# Altium footprint library Footprint-Lib-JVillodres.PcbLib: 52 footprints (part 3 of 4)
Each footprint in its own frame and in the unit in brackets; x right, y up, seen from the top. Pads: shape width x height; smd on the part's side, far side on the other; paste and mask are expansions set on the pad; w line width, h text height; cw(c..) or ccw(c..) is an arc to the next point about the centre after c.
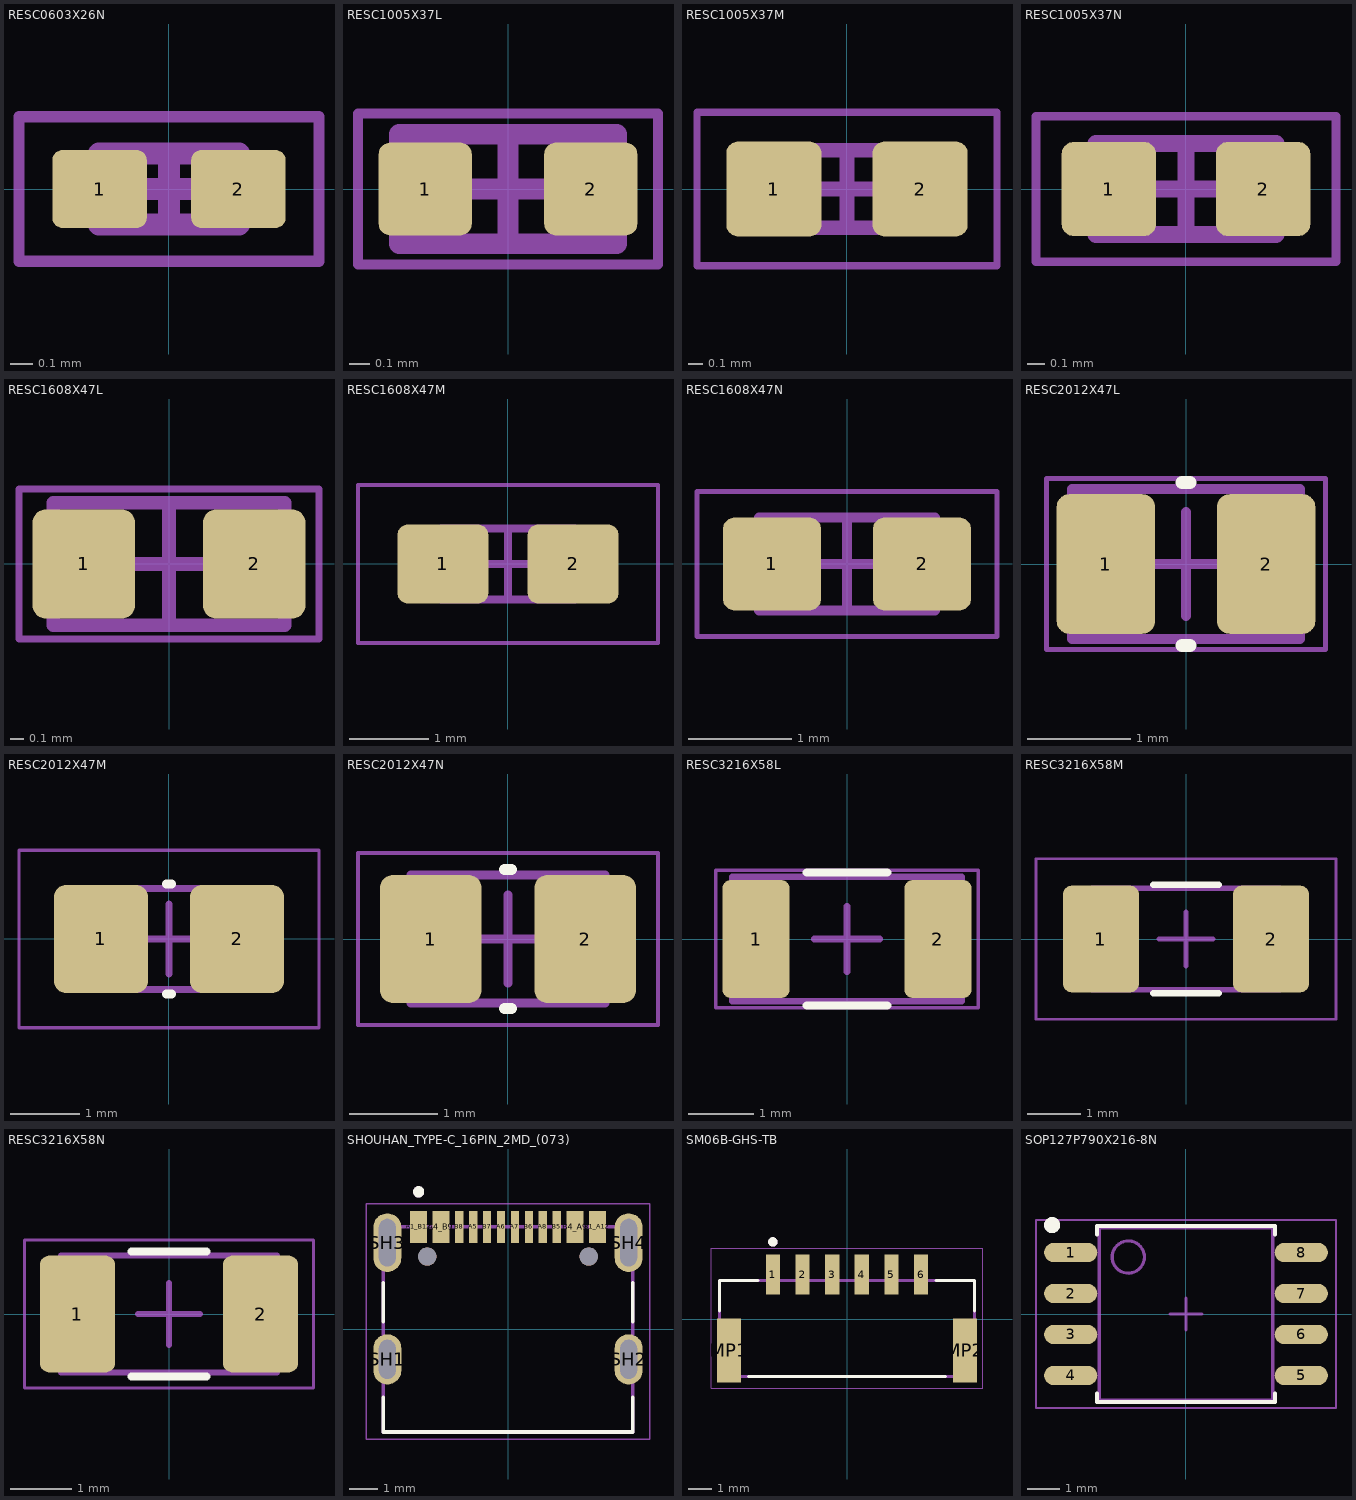
[diagram p2: the footprints below, top view; thin cyan lines are the x and y axes]

## RESC0603X26N [mm] "Chip Resistor, 2-Leads, Body 0,60x0,30mm, IPC Medium Density"
height 0.26
pads (2):
  rrect25% 0.425x0.35 smd: 1(-0.312,0) 2(0.313,0)
Top Assembly:
  lines w0.1: -0.315,-0.16 -0.315,0.16 0.315,0.16 0.315,-0.16 -0.315,-0.16
Top Designator:
  text ".Designator" at 0,0.188 h1
Top Courtyard:
  lines w0.05: -0.675,-0.325 -0.675,0.325 0.675,0.325 0.675,-0.325 -0.675,-0.325
Top Component Center:
  lines w0.1: -0.16,0 0.16,0 ; 0,-0.16 0,0.16
3D body "RESC0603X26N.step": height 0.26, standoff 0, extent -0.3,-0.15 0.3,0.15

## RESC1005X37L [mm] "Chip Resistor, 2-Leads, Body 1,00x0,50mm, IPC High Density"
height 0.37
pads (2):
  rrect25% 0.45x0.45 smd: 1(-0.4,0) 2(0.4,0)
Top Assembly:
  lines w0.1: -0.525,-0.265 -0.525,0.265 0.525,0.265 0.525,-0.265 -0.525,-0.265
Top Designator:
  text ".Designator" at 0,0.188 h1
Top Courtyard:
  lines w0.05: -0.725,-0.365 -0.725,0.365 0.725,0.365 0.725,-0.365 -0.725,-0.365
Top Component Center:
  lines w0.1: -0.265,0 0.265,0 ; 0,-0.265 0,0.265
3D body "RESC1005X37L.step": height 0.37, standoff 0, extent -0.5,-0.25 0.5,0.25

## RESC1005X37M [mm] "Chip Resistor, 2-Leads, Body 1,00x0,50mm, IPC Low Density"
height 0.37
pads (2):
  rrect25% 0.65x0.65 smd: 1(-0.5,0) 2(0.5,0)
Top Assembly:
  lines w0.1: -0.525,-0.265 -0.525,0.265 0.525,0.265 0.525,-0.265 -0.525,-0.265
Top Designator:
  text ".Designator" at 0,0.188 h1
Top Courtyard:
  lines w0.05: -1.025,-0.525 -1.025,0.525 1.025,0.525 1.025,-0.525 -1.025,-0.525
Top Component Center:
  lines w0.1: -0.265,0 0.265,0 ; 0,-0.265 0,0.265
3D body "RESC1005X37M.step": height 0.37, standoff 0, extent -0.5,-0.25 0.5,0.25

## RESC1005X37N [mm] "Chip Resistor, 2-Leads, Body 1,00x0,50mm, IPC Medium Density"
height 0.37
pads (2):
  rrect25% 0.55x0.55 smd: 1(-0.45,0) 2(0.45,0)
Top Assembly:
  lines w0.1: -0.525,-0.265 0.525,-0.265 0.525,0.265 -0.525,0.265 -0.525,-0.265
Top Designator:
  text ".Designator" at 0,0.188 h1
Top Courtyard:
  lines w0.05: -0.875,-0.425 0.875,-0.425 0.875,0.425 -0.875,0.425 -0.875,-0.425
Top Component Center:
  lines w0.1: -0.265,0 0.265,0 ; 0,-0.265 0,0.265
3D body "RESC1005X37N.step": height 0.37, standoff 0, extent -0.5,-0.25 0.5,0.25

## RESC1608X47L [mm] "Chip Resistor, 2-Leads, Body 1,60x0,80mm, IPC High Density"
height 0.47
pads (2):
  rrect25% 0.75x0.8 smd: 1(-0.625,0) 2(0.625,0)
Top Assembly:
  lines w0.1: -0.85,-0.45 -0.85,0.45 0.85,0.45 0.85,-0.45 -0.85,-0.45
Top Designator:
  text ".Designator" at 0,0.188 h1
Top Courtyard:
  lines w0.05: -1.1,-0.55 -1.1,0.55 1.1,0.55 1.1,-0.55 -1.1,-0.55
Top Component Center:
  lines w0.1: -0.45,0 0.45,0 ; 0,-0.45 0,0.45
3D body "RESC1608X47L.step": height 0.47, standoff 0, extent -0.8,-0.4 0.8,0.4

## RESC1608X47M [mm] "Chip Resistor, 2-Leads, Body 1,60x0,80mm, IPC Low Density"
height 0.47
pads (2):
  rrect25% 1.15x1 smd: 1(-0.825,0) 2(0.825,0)
Top Assembly:
  lines w0.1: -0.85,-0.45 -0.85,0.45 0.85,0.45 0.85,-0.45 -0.85,-0.45
Top Designator:
  text ".Designator" at 0,0.188 h1
Top Courtyard:
  lines w0.05: -1.9,-1 -1.9,1 1.9,1 1.9,-1 -1.9,-1
Top Component Center:
  lines w0.1: -0.45,0 0.45,0 ; 0,-0.45 0,0.45
3D body "RESC1608X47M.step": height 0.47, standoff 0, extent -0.8,-0.4 0.8,0.4

## RESC1608X47N [mm] "Chip Resistor, 2-Leads, Body 1,60x0,80mm, IPC Medium Density"
height 0.47
pads (2):
  rrect25% 0.95x0.9 smd: 1(-0.725,0) 2(0.725,0)
Top Assembly:
  lines w0.1: -0.85,-0.45 -0.85,0.45 0.85,0.45 0.85,-0.45 -0.85,-0.45
Top Designator:
  text ".Designator" at 0,0.188 h1
Top Courtyard:
  lines w0.05: -1.45,-0.7 -1.45,0.7 1.45,0.7 1.45,-0.7 -1.45,-0.7
Top Component Center:
  lines w0.1: -0.45,0 0.45,0 ; 0,-0.45 0,0.45
3D body "RESC1608X47N.step": height 0.47, standoff 0, extent -0.8,-0.4 0.8,0.4

## RESC2012X47L [mm] "Chip Resistor, 2-Leads, Body 2,00x1,25mm, IPC High Density"
height 0.47
pads (2):
  rrect25% 0.95x1.35 smd: 1(-0.775,0) 2(0.775,0)
Top Overlay:
  lines w0.127: -0.036,-0.788 0.036,-0.788 ; -0.036,0.788 0.036,0.788
Top Assembly:
  lines w0.1: -1.1,-0.725 -1.1,0.725 1.1,0.725 1.1,-0.725 -1.1,-0.725
Top Designator:
  text ".Designator" at 0,0.188 h1
Top Courtyard:
  lines w0.05: -1.35,-0.825 -1.35,0.825 1.35,0.825 1.35,-0.825 -1.35,-0.825
Top Component Center:
  lines w0.1: -0.5,0 0.5,0 ; 0,-0.5 0,0.5
3D body "RESC2012X47L.step": height 0.47, standoff 0, extent -1,-0.625 1,0.625

## RESC2012X47M [mm] "Chip Resistor, 2-Leads, Body 2,00x1,25mm, IPC Low Density"
height 0.47
pads (2):
  rrect25% 1.35x1.55 smd: 1(-0.975,0) 2(0.975,0)
Top Overlay:
  lines w0.127: -0.036,-0.788 0.036,-0.788 ; -0.036,0.788 0.036,0.788
Top Assembly:
  lines w0.1: -1.1,-0.725 -1.1,0.725 1.1,0.725 1.1,-0.725 -1.1,-0.725
Top Designator:
  text ".Designator" at 0,0.188 h1
Top Courtyard:
  lines w0.05: -2.15,-1.275 -2.15,1.275 2.15,1.275 2.15,-1.275 -2.15,-1.275
Top Component Center:
  lines w0.1: -0.5,0 0.5,0 ; 0,-0.5 0,0.5
3D body "RESC2012X47M.step": height 0.47, standoff 0, extent -1,-0.625 1,0.625

## RESC2012X47N [mm] "Chip Resistor, 2-Leads, Body 2,00x1,25mm, IPC Medium Density"
height 0.47
pads (2):
  rrect25% 1.15x1.45 smd: 1(-0.875,0) 2(0.875,0)
Top Overlay:
  lines w0.127: -0.036,-0.788 0.036,-0.788 ; -0.036,0.788 0.036,0.788
Top Assembly:
  lines w0.1: -1.1,-0.725 -1.1,0.725 1.1,0.725 1.1,-0.725 -1.1,-0.725
Top Designator:
  text ".Designator" at 0,0.188 h1
Top Courtyard:
  lines w0.05: -1.7,-0.975 -1.7,0.975 1.7,0.975 1.7,-0.975 -1.7,-0.975
Top Component Center:
  lines w0.1: -0.5,0 0.5,0 ; 0,-0.5 0,0.5
3D body "RESC2012X47N.step": height 0.47, standoff 0, extent -1,-0.625 1,0.625

## RESC3216X58L [mm] "Chip Resistor, 2-Leads, Body 3,20x1,60mm, IPC High Density"
height 0.58
pads (2):
  rrect25% 1.025x1.8 smd: 1(-1.388,0) 2(1.388,0)
Top Overlay:
  lines w0.127: -0.611,-1.013 0.611,-1.013 ; -0.611,1.014 0.611,1.014
Top Assembly:
  lines w0.1: -1.75,-0.95 1.75,-0.95 1.75,0.95 -1.75,0.95 -1.75,-0.95
Top Designator:
  text ".Designator" at 0,0.188 h1
Top Courtyard:
  lines w0.05: -2,-1.05 2,-1.05 2,1.05 -2,1.05 -2,-1.05
Top Component Center:
  lines w0.1: -0.5,0 0.5,0 ; 0,-0.5 0,0.5
3D body "RESC3216X58L.step": height 0.58, standoff 0, extent -1.6,-0.8 1.6,0.8

## RESC3216X58M [mm] "Chip Resistor, 2-Leads, Body 3,20x1,60mm, IPC Low Density"
height 0.58
pads (2):
  rrect25% 1.425x2 smd: 1(-1.587,0) 2(1.587,0)
Top Overlay:
  lines w0.127: -0.611,-1.014 0.611,-1.014 ; -0.611,1.014 0.611,1.014
Top Assembly:
  lines w0.1: -1.75,-0.95 1.75,-0.95 1.75,0.95 -1.75,0.95 -1.75,-0.95
Top Designator:
  text ".Designator" at 0,0.188 h1
Top Courtyard:
  lines w0.05: -2.8,-1.5 2.8,-1.5 2.8,1.5 -2.8,1.5 -2.8,-1.5
Top Component Center:
  lines w0.1: -0.5,0 0.5,0 ; 0,-0.5 0,0.5
3D body "RESC3216X58M.step": height 0.58, standoff 0, extent -1.6,-0.8 1.6,0.8

## RESC3216X58N [mm] "Chip Resistor, 2-Leads, Body 3,20x1,60mm, IPC Medium Density"
height 0.58
pads (2):
  rrect25% 1.225x1.9 smd: 1(-1.488,0) 2(1.488,0)
Top Overlay:
  lines w0.127: -0.611,-1.013 0.611,-1.013 ; -0.611,1.014 0.611,1.014
Top Assembly:
  lines w0.1: -1.75,-0.95 1.75,-0.95 1.75,0.95 -1.75,0.95 -1.75,-0.95
Top Designator:
  text ".Designator" at 0,0.188 h1
Top Courtyard:
  lines w0.05: -2.35,-1.2 2.35,-1.2 2.35,1.2 -2.35,1.2 -2.35,-1.2
Top Component Center:
  lines w0.1: -0.5,0 0.5,0 ; 0,-0.5 0,0.5
3D body "RESC3216X58N.step": height 0.58, standoff 0, extent -1.6,-0.8 1.6,0.8

## SHOUHAN_TYPE-C_16PIN_2MD_(073) [mm]
height 3.16
pads (18):
  rect 0.6x1.15 smd paste+0 mask+0: A1_B12(-3.2,3.67) A4_B9(-2.4,3.67) B1_A12(3.2,3.67) B4_A9(2.4,3.67)
  rect 0.3x1.15 smd paste+0 mask+0: A5(-1.25,3.67) A6(-0.25,3.67) A7(0.25,3.67) A8(1.25,3.67) B5(1.75,3.67) B6(0.75,3.67) B7(-0.75,3.67) B8(-1.75,3.67)
  oval 1x1.8 hole 0.6 slot 1.4 at 90 deg mask+0.102: SH1(-4.32,-1.075) SH2(4.32,-1.075)
  oval 1x2.1 hole 0.6 slot 1.7 at 90 deg mask+0.102: SH3(-4.32,3.105) SH4(4.32,3.105)
  round 0.65 hole 0.65 unplated mask+0: ""(-2.89,2.605) ""(2.89,2.605)
Top Overlay:
  circle w0.2: c-3.2,4.925 r0.1
  lines w0.127: -4.47,-2.425 -4.47,-3.675 4.47,-3.675 4.47,-2.425 ; -4.47,0.275 -4.47,1.675 ; 4.47,0.275 4.47,1.675
Top Solder:
  region: -1.55,3.055 -1.95,3.055 -1.95,4.295 -1.55,4.295
  region: -1.05,3.055 -1.45,3.055 -1.45,4.295 -1.05,4.295
  region: -0.55,3.055 -0.95,3.055 -0.95,4.295 -0.55,4.295
  region: 1.95,3.055 1.55,3.055 1.55,4.295 1.95,4.295
  region: 1.45,3.055 1.05,3.055 1.05,4.295 1.45,4.295
  region: 0.95,3.055 0.55,3.055 0.55,4.295 0.95,4.295
  region: -0.05,3.055 -0.45,3.055 -0.45,4.295 -0.05,4.295
  region: 0.45,3.055 0.05,3.055 0.05,4.295 0.45,4.295
  region: -2.85,3.055 -3.55,3.055 -3.55,4.295 -2.85,4.295
  region: 3.55,3.055 2.85,3.055 2.85,4.295 3.55,4.295
  region: -2.05,3.055 -2.75,3.055 -2.75,4.295 -2.05,4.295
  region: 2.75,3.055 2.05,3.055 2.05,4.295 2.75,4.295
Top 3D Body:
  circle w0.2: c-3.2,4.925 r0.1
  lines w0.127: -4.47,-3.675 4.47,-3.675 4.47,3.675 -4.47,3.675 -4.47,-3.675
Top Courtyard:
  lines w0.05: -5.07,-3.925 -5.07,4.495 5.07,4.495 5.07,-3.925 -5.07,-3.925
3D body "step_temp.STEP": height 3.26, standoff -0.9, extent -4.47,-3.675 4.47,3.975

## SM06B-GHS-TB [mm]
pads (8):
  rect 0.6x1.7 smd paste+0 mask+0.102: 1(-3.125,1.875) 2(-1.875,1.875) 3(-0.625,1.875) 4(0.625,1.875) 5(1.875,1.875) 6(3.125,1.875)
  rect 1x2.7 smd paste+0 mask+0.102: MP1(-4.975,-1.325) MP2(4.975,-1.325)
Top Overlay:
  circle w0.2: c-3.125,3.25 r0.1
  lines w0.127: -5.375,0.345 -5.375,1.625 -3.745,1.625 ; -4.155,-2.425 4.155,-2.425 ; 3.745,1.625 5.375,1.625 5.375,0.345
Top 3D Body:
  circle w0.2: c-3.125,3.25 r0.1
  lines w0.127: -5.375,-2.425 5.375,-2.425 5.375,1.625 -5.375,1.625 -5.375,-2.425
Top Courtyard:
  lines w0.05: -5.725,-2.925 5.725,-2.925 5.725,2.975 -5.725,2.975 -5.725,-2.925
3D body "step_temp.STEP": height 4.25, standoff 0, extent -5.375,-2.048 5.375,2.802

## SOP127P790X216-8N [mm] "SOP, 8-Leads, Body 5,23x5,28mm, Pitch 1,27mm, IPC Medium Density"
height 2.16
pads (8):
  oval 1.65x0.6 smd: 1(-3.575,1.905) 2(-3.575,0.635) 3(-3.575,-0.635) 4(-3.575,-1.905) 5(3.575,-1.905) 6(3.575,-0.635) 7(3.575,0.635) 8(3.575,1.905)
Top Overlay:
  circle w0.25: c-4.15,2.755 r0.125
  lines w0.127: -2.753,-2.468 -2.753,-2.729 2.753,-2.729 2.753,-2.468 ; -2.753,2.468 -2.753,2.729 2.753,2.729 2.753,2.468
Top Assembly:
  circle w0.1: c-1.79,1.765 r0.5
  lines w0.1: -2.69,-2.665 2.69,-2.665 2.69,2.665 -2.69,2.665 -2.69,-2.665
Top Courtyard:
  lines w0.05: -4.65,-2.915 4.65,-2.915 4.65,2.915 -4.65,2.915 -4.65,-2.915
  lines w0.1: -0.5,0 0.5,0 ; 0,-0.5 0,0.5
3D body "SOP127P790X216-8N.step": height 2.16, standoff 0, extent -3.95,-2.665 3.95,2.665